# Altium schematic symbol library TI TPS7A02‑3.3.SchLib: 1 symbol
Pins are listed as number, name and electrical type; pins without a type are passive.

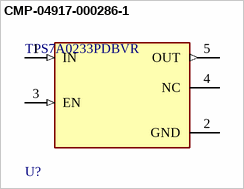
[diagram p0: symbol CMP-04917-000286-1]

## CMP-04917-000286-1
designator U?, comment TPS7A0233PDBVR
IC REG LINEAR 3.3V 200MA SOT23-5; RoHS Compliant: Yes
footprint FP-DBV0005A-MFG
footprint FP-DBV0005A-IPC_B
footprint FP-DBV0005A-IPC_C
footprint FP-DBV0005A-IPC_A
pins: 1 IN (in), 2 GND (power), 3 EN (in), 4 NC, 5 OUT (out)